# Altium footprint library Pulser.PcbLib: 3 footprints
Each footprint in its own frame and in the unit in brackets; x right, y up, seen from the top. Pads: shape width x height; smd on the part's side, far side on the other; paste and mask are expansions set on the pad; w line width, h text height; cw(c..) or ccw(c..) is an arc to the next point about the centre after c.
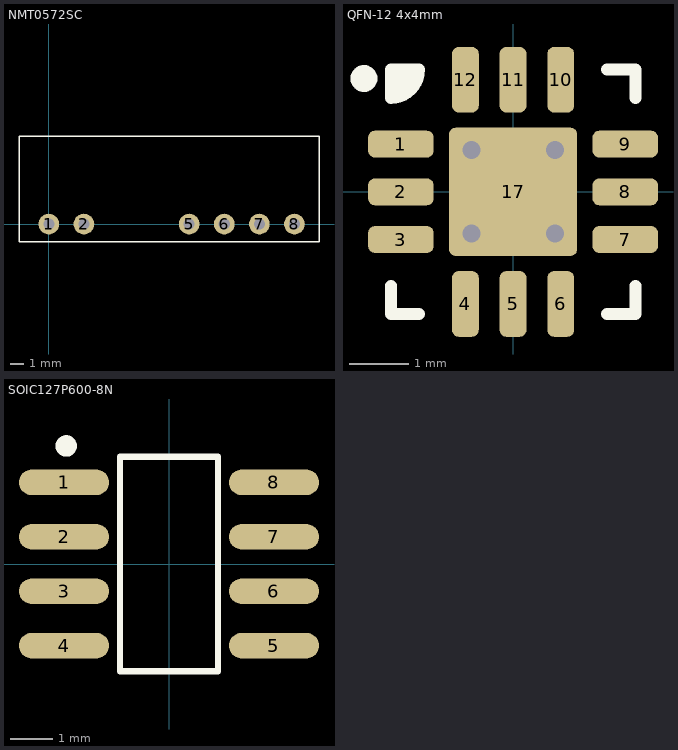
[diagram p0: the footprints below, top view; thin cyan lines are the x and y axes]

## NMT0572SC [mm]
height 12
pads (6):
  round 1.5 hole 0.8: 1(0,0) 2(2.54,0) 5(10.16,0) 6(12.7,0) 7(15.24,0) 8(17.78,0)
Top Overlay:
  lines w0.1: -2.159,-1.27 -2.159,6.35 19.558,6.35 19.558,-1.27 -2.159,-1.27
3D body: height 11.2, standoff 0.1, extent -2.159,-1.27 19.558,6.35

## QFN-12 4x4mm [mm] "0.8 mm pitch"
height 1
pads (13):
  rrect50% 1.1x0.45 smd: 1(-1.88,0.8) 2(-1.88,0) 3(-1.88,-0.8) 7(1.88,-0.8) 8(1.88,0) 9(1.88,0.8)
  rrect50% 0.45x1.1 smd: 4(-0.8,-1.88) 5(0,-1.88) 6(0.8,-1.88) 10(0.8,1.88) 11(0,1.88) 12(-0.8,1.88)
  rrect10% 2.15x2.15 smd: 17(0,0)
via 0.7,0.7 diameter 0.65 hole 0.3
via -0.7,0.7 diameter 0.65 hole 0.3
via -0.7,-0.7 diameter 0.65 hole 0.3
via 0.7,-0.7 diameter 0.65 hole 0.3
Top Overlay:
  circle w0.25: c-2.5,1.9 r0.1
  region: -2.05,2.05 -1.575,2.05 -1.575,1.854 -1.854,1.575 -2.05,1.575
  lines w0.2: -2.05,-1.575 -2.05,-2.05 -1.575,-2.05 ; 1.575,-2.05 2.05,-2.05 2.05,-1.575 ; 1.575,2.05 2.05,2.05 2.05,1.575 ; -2.05,1.575 ccw(c-2.05,2.05) -1.575,2.05 -2.05,2.05 -2.05,1.575
Mechanical 15:
  lines w0.1: -0.5,0 0.5,0 ; 0,-0.5 0,0.5
3D body "User Library-qfn16-4x4.step": height 0.92, standoff 0, extent -2,-2 2,2

## SOIC127P600-8N [mm] "SOIC, 8-Leads, Body 4.9x3.9mm, Pitch 1.27mm, IPC Medium Density"
height 1.75
pads (8):
  oval 2.1x0.6 smd paste-5: 1(-2.45,1.905) 2(-2.45,0.635) 3(-2.45,-0.635) 4(-2.45,-1.905) 5(2.45,-1.905) 6(2.45,-0.635) 7(2.45,0.635) 8(2.45,1.905)
Top Overlay:
  circle w0.25: c-2.4,2.755 r0.125
  lines w0.15: -1.143,-2.5 -1.143,2.5 1.143,2.5 1.143,-2.5 -1.143,-2.5
Top Paste:
  region: -1.775,-2.2 -1.775,-1.625 -3.25,-1.625 -3.25,-2.2
  region: -1.775,-0.925 -1.775,-0.35 -3.25,-0.35 -3.25,-0.925
  region: -1.775,0.35 -1.775,0.925 -3.25,0.925 -3.25,0.35
  region: -1.775,1.625 -1.775,2.2 -3.25,2.2 -3.25,1.625
  region: 1.775,-1.625 1.775,-2.2 3.25,-2.2 3.25,-1.625
  region: 1.775,-0.35 1.775,-0.925 3.25,-0.925 3.25,-0.35
  region: 1.775,0.925 1.775,0.35 3.25,0.35 3.25,0.925
  region: 1.775,2.2 1.775,1.625 3.25,1.625 3.25,2.2
3D body "User Library-SOIC08-150.step": height 1.75, standoff 0, extent -2.9,-2.4 2.9,2.4